# EAGLE library part SOIC28 (library longpad)
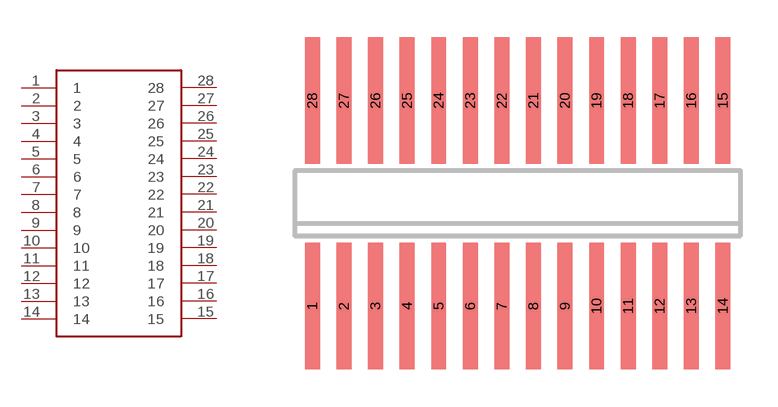
[diagram p0: symbol with the pads of SO28X; footprint SO28X]

Designator prefix -

## SOIC28  [SO28X]
1  1
2  2
3  3
4  4
5  5
6  6
7  7
8  8
9  9
10  10
11  11
12  12
13  13
14  14
15  15
16  16
17  17
18  18
19  19
20  20
21  21
22  22
23  23
24  24
25  25
26  26
27  27
28  28

## Footprint SO28X (pad centres in mm)
SMALL OUTLINE INTEGRATED CIRCUIT extra wide body 8.9 mm/JEDEC MO-120AB
smd 0.6 x 5.08: 1 -8.255,-4.13; 2 -6.985,-4.13; 3 -5.715,-4.13; 4 -4.445,-4.13; 5 -3.175,-4.13; 6 -1.905,-4.13; 7 -0.635,-4.13; 8 0.635,-4.13; 9 1.905,-4.13; 10 3.175,-4.13; 11 4.445,-4.13; 12 5.715,-4.13; 13 6.985,-4.13; 14 8.255,-4.13; 15 8.255,4.13; 16 6.985,4.13; 17 5.715,4.13; 18 4.445,4.13; 19 3.175,4.13; 20 1.905,4.13; 21 0.635,4.13; 22 -0.635,4.13; 23 -1.905,4.13; 24 -3.175,4.13; 25 -4.445,4.13; 26 -5.715,4.13; 27 -6.985,4.13; 28 -8.255,4.13